# EAGLE library part AT90CAN* (library _hhn_at90can32_64_128)
ATMEL AVR AT90CAN32-..A. / 64-..A. / 128-..A., TQFP64 (Atmel Package Code 'A2 64': 64-Lead, Thin 1.0 mm / 0.03937 in. Plastic Gull Wing Quad Flat Package) Ordering Code = Product Marking / Speed (MHz) / Power Supply (V) / Operation Range AT90CANx-16AI / 16 / 2.7 .. 5.5 / Industrial (-40 .. +85)°C AT90CANx-16AU / 16 / 2.7 .. 5.5 / Industrial Green (-40 .. +85)°C x = 32 / 64 / 128 (KB of ISP Flash Memory) Author: Dipl.-Ing. FH Rainer Bayer HHN Hochschule Heilbronn, rainer.bayer@hs-heilbronn.de Ingenieurbüro ing-rb, mail@ing-rb.de
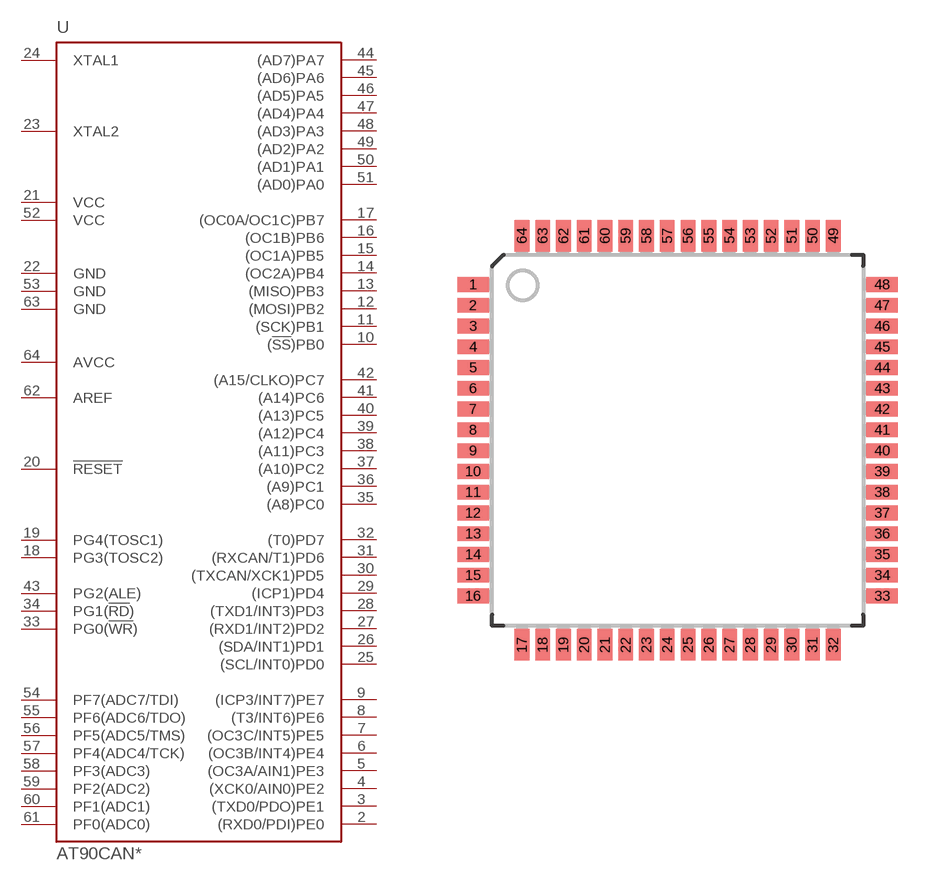
[diagram p0: symbol with the pads of TQFP64; footprint TQFP64]

Designator prefix U

## AT90CAN-32-16AI, AT90CAN-32-16AU, AT90CAN-64-16AI, AT90CAN-64-16AU, AT90CAN-128-16AI, AT90CAN-128-16AU, AT90CAN-GENERIC-A  [TQFP64]
2  (RXD0/PDI)PE0
3  (TXD0/PDO)PE1
4  (XCK0/AIN0)PE2
5  (OC3A/AIN1)PE3
6  (OC3B/INT4)PE4
7  (OC3C/INT5)PE5
8  (T3/INT6)PE6
9  (ICP3/INT7)PE7
10  (!SS!)PB0
11  (SCK)PB1
12  (MOSI)PB2
13  (MISO)PB3
14  (OC2A)PB4
15  (OC1A)PB5
16  (OC1B)PB6
17  (OC0A/OC1C)PB7
18  PG3(TOSC2)
19  PG4(TOSC1)
20  !RESET  in
21  VCC  pwr
22  GND  pwr
23  XTAL2  pas
24  XTAL1  pas
25  (SCL/INT0)PD0
26  (SDA/INT1)PD1
27  (RXD1/INT2)PD2
28  (TXD1/INT3)PD3
29  (ICP1)PD4
30  (TXCAN/XCK1)PD5
31  (RXCAN/T1)PD6
32  (T0)PD7
33  PG0(!WR!)
34  PG1(!RD!)
35  (A8)PC0
36  (A9)PC1
37  (A10)PC2
38  (A11)PC3
39  (A12)PC4
40  (A13)PC5
41  (A14)PC6
42  (A15/CLKO)PC7
43  PG2(ALE)
44  (AD7)PA7
45  (AD6)PA6
46  (AD5)PA5
47  (AD4)PA4
48  (AD3)PA3
49  (AD2)PA2
50  (AD1)PA1
51  (AD0)PA0
52  VCC  pwr
53  GND  pwr
54  PF7(ADC7/TDI)
55  PF6(ADC6/TDO)
56  PF5(ADC5/TMS)
57  PF4(ADC4/TCK)
58  PF3(ADC3)
59  PF2(ADC2)
60  PF1(ADC1)
61  PF0(ADC0)
62  AREF  pas
63  GND  pwr
64  AVCC  pwr

## Footprint TQFP64 (pad centres in mm)
64-Lead Thin Plasic Quad Flat Package
smd 1.194 x 0.559: 1 -7.76,5.905; 2 -7.76,5.118; 3 -7.76,4.331; 4 -7.76,3.543; 5 -7.76,2.756; 6 -7.76,1.968; 7 -7.76,1.181; 8 -7.76,0.394; 9 -7.76,-0.394; 10 -7.76,-1.181; 11 -7.76,-1.968; 12 -7.76,-2.756; 13 -7.76,-3.543; 14 -7.76,-4.331; 15 -7.76,-5.118; 16 -7.76,-5.905; 33 7.76,-5.905; 34 7.76,-5.118; 35 7.76,-4.331; 36 7.76,-3.543; 37 7.76,-2.756; 38 7.76,-1.968; 39 7.76,-1.181; 40 7.76,-0.394; 41 7.76,0.394; 42 7.76,1.181; 43 7.76,1.968; 44 7.76,2.756; 45 7.76,3.543; 46 7.76,4.331; 47 7.76,5.118; 48 7.76,5.905
smd 0.559 x 1.194: 17 -5.905,-7.76; 18 -5.118,-7.76; 19 -4.331,-7.76; 20 -3.543,-7.76; 21 -2.756,-7.76; 22 -1.968,-7.76; 23 -1.181,-7.76; 24 -0.394,-7.76; 25 0.394,-7.76; 26 1.181,-7.76; 27 1.968,-7.76; 28 2.756,-7.76; 29 3.543,-7.76; 30 4.331,-7.76; 31 5.118,-7.76; 32 5.905,-7.76; 49 5.905,7.76; 50 5.118,7.76; 51 4.331,7.76; 52 3.543,7.76; 53 2.756,7.76; 54 1.968,7.76; 55 1.181,7.76; 56 0.394,7.76; 57 -0.394,7.76; 58 -1.181,7.76; 59 -1.968,7.76; 60 -2.756,7.76; 61 -3.543,7.76; 62 -4.331,7.76; 63 -5.118,7.76; 64 -5.905,7.76